# EAGLE library part PMOD_JD (library ov7670)
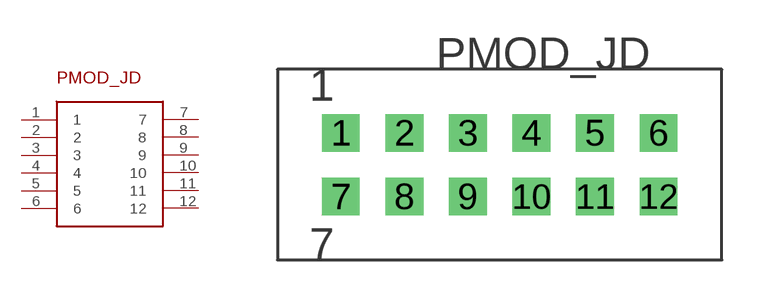
[diagram p2: symbol with the pads of PMOD_JD; footprint PMOD_JD]

Designator prefix -

## PMOD_JD  [PMOD_JD]
1  1
2  2
3  3
4  4
5  5
6  6
7  7
8  8
9  9
10  10
11  11
12  12

## Footprint PMOD_JD (pad centres in mm)
drill 1 square: 1 -11.43,3.81; 2 -8.89,3.81; 3 -6.35,3.81; 4 -3.81,3.81; 5 -1.27,3.81; 6 1.27,3.81; 7 -11.43,1.27; 8 -8.89,1.27; 9 -6.35,1.27; 10 -3.81,1.27; 11 -1.27,1.27; 12 1.27,1.27